# EAGLE library part AS-ITM-00370 (library tinycircuits)
IC PWR AMP AUD 2.65W D 8UDFN
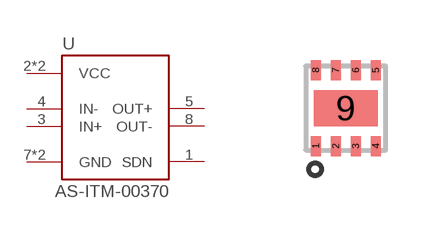
[diagram p150: symbol with the pads of WSON-8; footprint WSON-8]

Designator prefix U

## AS-ITM-00370 (PARTNO: AS-ITM-00370; VALUE: NCP2820)  [WSON-8]
1  SDN
2  VCC
3  IN+
4  IN-
5  OUT+
6  VCC
7  GND
8  OUT-
9  GND

## Footprint WSON-8 (pad centres in mm)
smd 0.25 x 0.5: 1 -0.75,-0.95; 2 -0.25,-0.95; 3 0.25,-0.95; 4 0.75,-0.95; 5 0.75,0.95; 6 0.25,0.95; 7 -0.25,0.95; 8 -0.75,0.95
smd 1.6 x 0.9: 9 0,0